# Altium footprint library Wireless_Security_Detector.PcbLib: 36 footprints (part 2 of 3)
Each footprint in its own frame and in the unit in brackets; x right, y up, seen from the top. Pads: shape width x height; smd on the part's side, far side on the other; paste and mask are expansions set on the pad; w line width, h text height; cw(c..) or ccw(c..) is an arc to the next point about the centre after c.
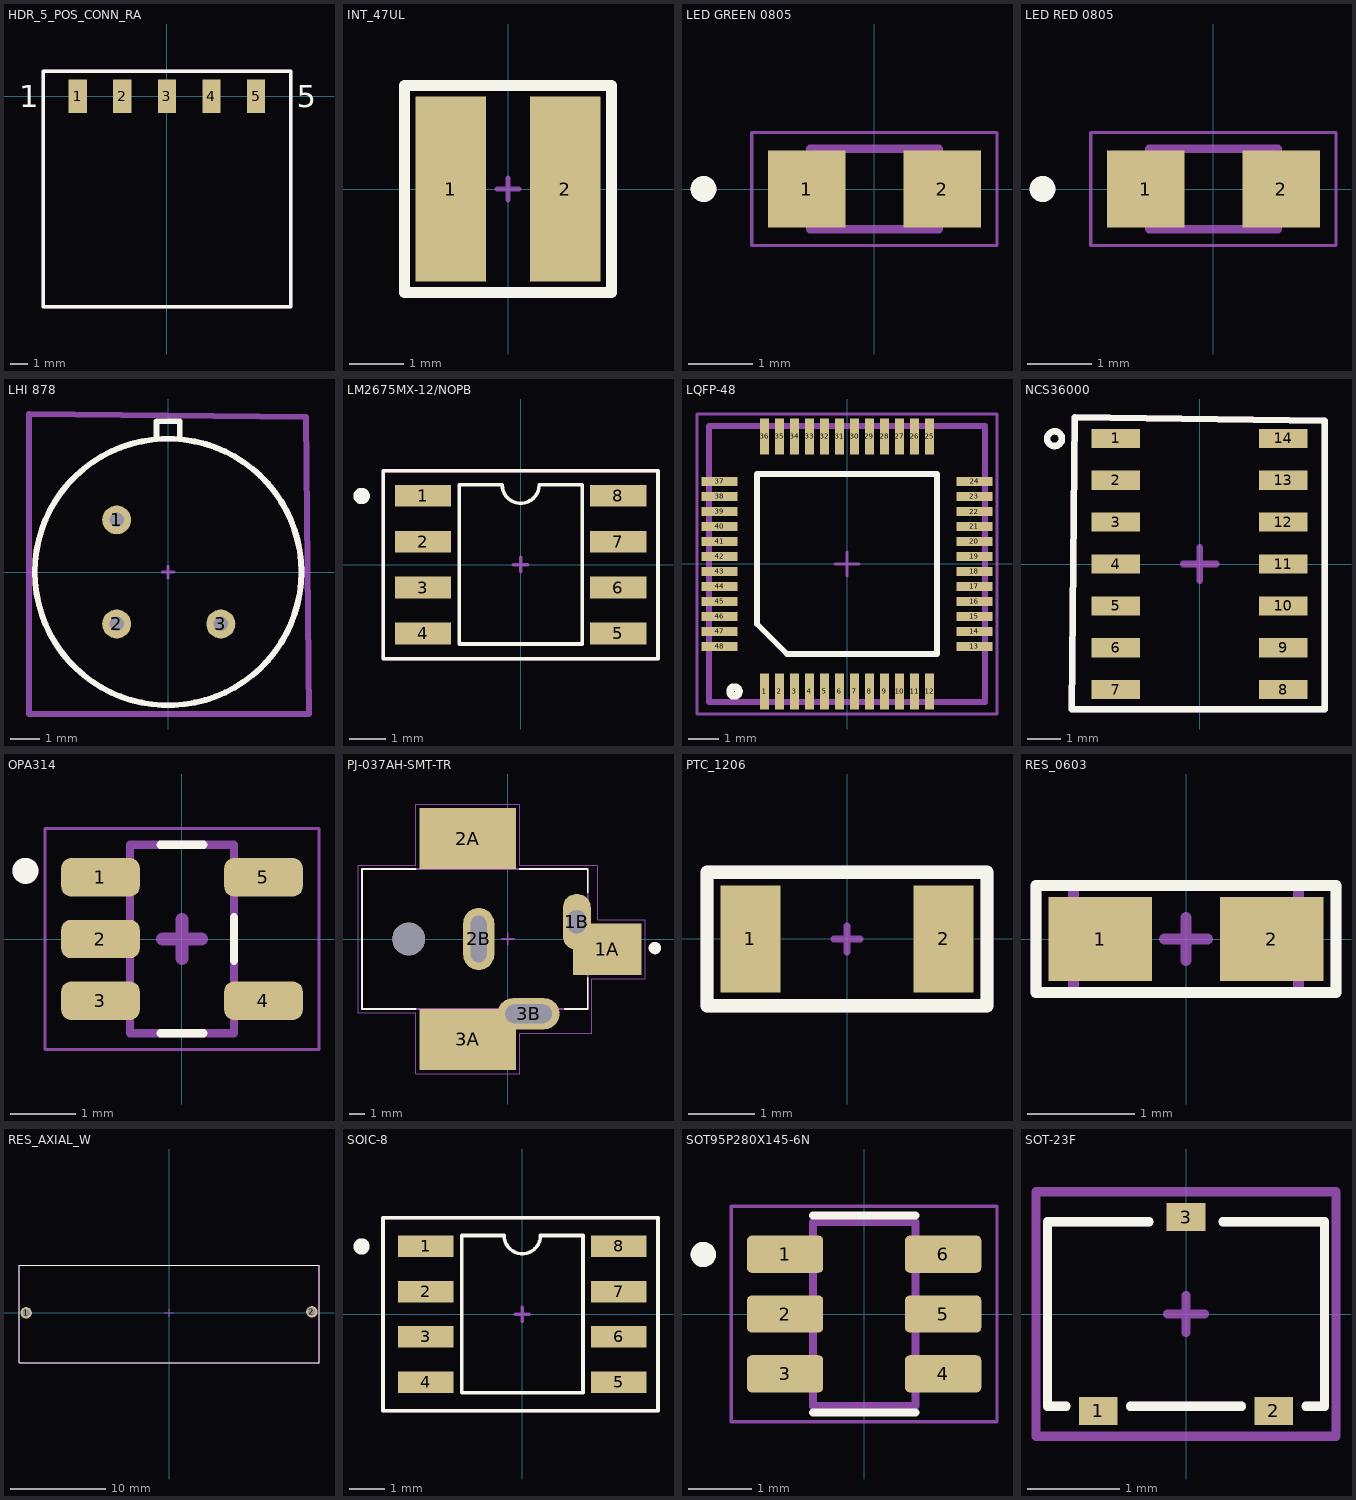
[diagram p1: the footprints below, top view; thin cyan lines are the x and y axes]

## HDR_5_POS_CONN_RA [mm]
pads (5):
  rect 1.04x1.91 smd mask+0: 1(-5.08,0) 2(-2.54,0) 3(0,0) 4(2.54,0) 5(5.08,0)
Top Overlay:
  lines w0.2: -7.054,-11.982 7.054,-11.982 7.054,1.406 -7.054,1.406 -7.054,-11.982
  text "1" at -8.424,-0.635 h1.27
  text "5" at 7.395,-0.635 h1.27
Top Paste:
  region: -4.56,-0.955 -5.6,-0.955 -5.6,0.955 -4.56,0.955
  region: -2.02,-0.955 -3.06,-0.955 -3.06,0.955 -2.02,0.955
  region: 0.52,-0.955 -0.52,-0.955 -0.52,0.955 0.52,0.955
  region: 3.06,-0.955 2.02,-0.955 2.02,0.955 3.06,0.955
  region: 5.6,-0.955 4.56,-0.955 4.56,0.955 5.6,0.955
Top Solder:
  region: -4.509,-1.006 -5.651,-1.006 -5.651,1.006 -4.509,1.006
  region: -1.969,-1.006 -3.111,-1.006 -3.111,1.006 -1.969,1.006
  region: 0.571,-1.006 -0.571,-1.006 -0.571,1.006 0.571,1.006
  region: 3.111,-1.006 1.969,-1.006 1.969,1.006 3.111,1.006
  region: 5.651,-1.006 4.509,-1.006 4.509,1.006 5.651,1.006
Top 3D Body:
  lines w0.2: -7.054,-11.982 -7.054,1.406 7.054,1.406 7.054,-11.982 -7.054,-11.982
Top Component Center:
  lines w0.1: -0.2,0 0.2,0 ; 0,-0.2 0,0.2
Top Designator:
  lines w0.2: -7.054,-11.982 -7.054,1.406 7.054,1.406 7.054,-11.982 -7.054,-11.982
  text ".Designator" at -1.9,-6.067 h1
Mechanical 13:
  text "1" at -8.424,-0.635 h1.27
  text "5" at 7.395,-0.635 h1.27
3D body "smh-105-02-l-s.stp": height 2.41, standoff -0.01, extent -6.6,-11.509 6.608,0.429

## INT_47UL [mm]
pads (2):
  rect 1.3x3.4 smd mask+0.05: 1(-1.05,0) 2(1.05,0)
Top Overlay:
  lines w0.2: -1.9,-1.9 1.9,-1.9 1.9,1.9 -1.9,1.9 -1.9,-1.9
Top 3D Body:
  lines w0.2: -1.9,-1.9 1.9,-1.9 1.9,1.9 -1.9,1.9 -1.9,-1.9
Top Component Center:
  lines w0.1: -0.2,0 0.2,0 ; 0,-0.2 0,0.2
  lines w0.2: -1.9,-1.9 1.9,-1.9 1.9,1.9 -1.9,1.9 -1.9,-1.9
Top Designator:
  lines w0.2: -1.9,-1.9 1.9,-1.9 1.9,1.9 -1.9,1.9 -1.9,-1.9
  text ".Designator" at -1.6,-0.833 h0.8
3D body: height 0.25, standoff 0, extent -1.5,-1.5 1.5,1.5

## LED GREEN 0805 [mm]
pads (2):
  rect 1.2x1.2 smd: 1(-1.05,0) 2(1.05,0)
Top Overlay:
  circle w0.2: c-2.65,0 r0.1
Mechanical 13:
  circle w0.2: c-2.65,0 r0.1
  lines w0.127: -1,-0.625 -1,0.625 1,0.625 1,-0.625 -1,-0.625
Mechanical 15:
  lines w0.05: -1.9,-0.875 1.9,-0.875 1.9,0.875 -1.9,0.875 -1.9,-0.875
3D body "LTST-C171GKT--3DModel-STEP-510211.STEP": height 0.8, standoff 0, extent -1,-0.625 1,0.625

## LED RED 0805 [mm]
pads (2):
  rect 1.2x1.2 smd: 1(-1.05,0) 2(1.05,0)
Top Overlay:
  circle w0.2: c-2.65,0 r0.1
Mechanical 13:
  circle w0.2: c-2.65,0 r0.1
  lines w0.127: -1,-0.625 1,-0.625 1,0.625 -1,0.625 -1,-0.625
Mechanical 15:
  lines w0.05: -1.9,-0.875 -1.9,0.875 1.9,0.875 1.9,-0.875 -1.9,-0.875
3D body "LTST-C171KRKT.STEP": height 1.1, standoff 0, extent -1,-0.625 1,0.625

## LHI 878 [mm]
pads (3):
  round 1 hole 0.5 mask+0.05: 1(-1.774,1.8) 2(-1.774,-1.792) 3(1.818,-1.792)
Top Overlay:
  circle w0.2: c0,0 r4.6
  lines w0.2: -0.4,4.6 -0.404,5.2 0.404,5.2 0.4,4.6
Top 3D Body:
  circle w0.2: c0,0 r4.6
Top Component Center:
  lines w0.1: -0.2,0 0.2,0 ; 0,-0.2 0,0.2
Top Designator:
  lines w0.2: -4.8,-4.9 -4.8,5.454 4.764,5.353 4.863,-4.9 -4.8,-4.9
  text ".Designator" at -1.9,-0.167 h1
3D body "User Library-LHI878.step": height 4.3, standoff -2.7, extent -4.6,-4.6 4.6,5.029

## LM2675MX-12/NOPB [mm]
pads (8):
  rect 1.55x0.6 smd mask+0.05: 1(-2.7,1.905) 2(-2.7,0.635) 3(-2.7,-0.635) 4(-2.7,-1.905) 5(2.7,-1.905) 6(2.7,-0.635) 7(2.7,0.635) 8(2.7,1.905)
Top Overlay:
  circle w0.254: c-4.4,1.9 r0.1
  lines w0.1: -3.8,-2.6 -3.8,2.6 3.8,2.6 3.8,-2.6 -3.8,-2.6 ; -1.7,-2.195 1.7,-2.195 1.7,2.205 0.51,2.205 cw(c0,2.205) -0.51,2.205 -1.7,2.205 -1.7,-2.195
Top 3D Body:
  lines w0.1: -3.8,-2.6 3.8,-2.6 3.8,2.6 -3.8,2.6 -3.8,-2.6
Top Component Center:
  lines w0.1: -0.2,0 0.2,0 ; 0,-0.2 0,0.2
Top Designator:
  lines w0.1: -3.8,-2.6 -3.8,2.6 3.8,2.6 3.8,-2.6 -3.8,-2.6
  text ".Designator" at -0.85,-0.283 h0.8
3D body "LM2675MX-12_NOPB.STEP": height 1.72, standoff -0.03, extent -3,-2.445 3,2.455

## LQFP-48 [mm]
pads (48):
  rect 0.3x1.2 smd mask+0.05: 1(-2.75,-4.25) 2(-2.25,-4.25) 3(-1.75,-4.25) 4(-1.25,-4.25) 5(-0.75,-4.25) 6(-0.25,-4.25) 7(0.25,-4.25) 8(0.75,-4.25) 9(1.25,-4.25) 10(1.75,-4.25) 11(2.25,-4.25) 12(2.75,-4.25) 25(2.75,4.25) 26(2.25,4.25) 27(1.75,4.25) 28(1.25,4.25) 29(0.75,4.25) 30(0.25,4.25) 31(-0.25,4.25) 32(-0.75,4.25) 33(-1.25,4.25) 34(-1.75,4.25) 35(-2.25,4.25) 36(-2.75,4.25)
  rect 1.2x0.3 smd mask+0.05: 13(4.25,-2.75) 14(4.25,-2.25) 15(4.25,-1.75) 16(4.25,-1.25) 17(4.25,-0.75) 18(4.25,-0.25) 19(4.25,0.25) 20(4.25,0.75) 21(4.25,1.25) 22(4.25,1.75) 23(4.25,2.25) 24(4.25,2.75) 37(-4.25,2.75) 38(-4.25,2.25) 39(-4.25,1.75) 40(-4.25,1.25) 41(-4.25,0.75) 42(-4.25,0.25) 43(-4.25,-0.25) 44(-4.25,-0.75) 45(-4.25,-1.25) 46(-4.25,-1.75) 47(-4.25,-2.25) 48(-4.25,-2.75)
Top Overlay:
  circle w0.25: c-3.75,-4.25 r0.15
  lines w0.2: -3,-2 -2,-3 3,-3 3,3 -3,3 -3,-2
Top 3D Body:
  lines w0.2: -4.6,-4.6 -4.6,4.6 4.6,4.6 4.6,-4.6 -4.6,-4.6
Top Component Center:
  lines w0.1: -0.4,0 0.4,0 ; 0,-0.4 0,0.4 ; -5,-5 5,-5 5,5 -5,5 -5,-5
Top Designator:
  lines w0.1: -5,-5 5,-5 5,5 -5,5 -5,-5
  text ".Designator" at -4.099,-1.667 h0.8
3D body "STM32F103C6T6ATR.STEP": height 1.6, standoff 0, extent -4.5,-4.5 4.5,4.5

## NCS36000 [mm]
pads (14):
  rect 1.48x0.58 smd mask+0.05: 1(-2.54,3.81) 2(-2.54,2.54) 3(-2.54,1.27) 4(-2.54,0) 5(-2.54,-1.27) 6(-2.54,-2.54) 7(-2.54,-3.81) 8(2.54,-3.81) 9(2.54,-2.54) 10(2.54,-1.27) 11(2.54,0) 12(2.54,1.27) 13(2.54,2.54) 14(2.54,3.81)
Top Overlay:
  circle w0.2: c-4.4,3.8 r0.224
  lines w0.2: -3.88,-4.4 3.8,-4.4 3.8,4.35 -3.783,4.447 -3.88,-4.4
Top 3D Body:
  lines w0.2: -3.88,-4.4 -3.783,4.447 3.8,4.35 3.8,-4.4 -3.88,-4.4
Top Component Center:
  lines w0.2: -0.5,0 0.5,0 ; 0,-0.5 0,0.5 ; -3.88,-4.4 3.8,-4.4 3.8,4.35 -3.783,4.447 -3.88,-4.4
Top Designator:
  lines w0.2: -3.88,-4.4 -3.783,4.447 3.8,4.35 3.8,-4.4 -3.88,-4.4
  text ".Designator" at -1.3,-1.533 h0.8
3D body "NCS36000DRG.step": height 1.83, standoff 0.03, extent -3,-4.28 3,4.28

## OPA314 [mm]
pads (5):
  rrect50% 1.21x0.59 smd: 1(-1.255,0.95) 2(-1.255,0) 3(-1.255,-0.95) 4(1.255,-0.95) 5(1.255,0.95)
Top Overlay:
  circle w0.2: c-2.41,1.05 r0.1
  lines w0.127: -0.33,-1.45 0.33,-1.45 ; -0.33,1.45 0.33,1.45 ; 0.8,-0.335 0.8,0.335
Top 3D Body:
  lines w0.127: -0.8,-1.45 0.8,-1.45 0.8,1.45 -0.8,1.45 -0.8,-1.45
Top Component Center:
  lines w0.05: -2.11,-1.7 2.11,-1.7 2.11,1.7 -2.11,1.7 -2.11,-1.7
  lines w0.2: -0.3,0 0.3,0 ; 0,-0.3 0,0.3
Top Designator:
  lines w0.05: -2.11,-1.7 2.11,-1.7 2.11,1.7 -2.11,1.7 -2.11,-1.7
  text ".Designator" at -0.5,-0.433 h0.8
Mechanical 13:
  circle w0.2: c-2.41,1.05 r0.1
3D body "step_temp.STEP": height 1.41, standoff -0.04, extent -1.4,-1.45 1.4,1.45

## PJ-037AH-SMT-TR [mm]
pads (7):
  rect 4.4x3.3 smd: 1A(6.375,-0.65)
  oval 1.8x3.6 hole 1.2 slot 1.5 at 90 deg: 1B(4.425,1.1)
  rect 6.2x3.9 smd: 2A(-2.575,6.45) 3A(-2.575,-6.45)
  oval 2x4 hole 1 slot 3 at 90 deg: 2B(-1.875,0)
  oval 4x2 hole 1.2 slot 3 at 0 deg: 3B(1.325,-4.8)
  round 2.1 hole 2.1 unplated: ""(-6.375,0)
Top Overlay:
  circle w0.4: c9.435,-0.58 r0.2
  lines w0.127: -5.925,-4.5 -9.375,-4.5 -9.375,4.5 -5.925,4.5 ; 0.775,4.5 5.125,4.5 5.125,3 ; 3.675,-4.5 5.125,-4.5 5.125,-2.5
Top Component Center:
  lines w0.05: -5.95,4.75 -9.625,4.75 -9.625,-4.75 -5.925,-4.75 -5.925,-8.65 0.775,-8.65 0.775,-6.05 5.375,-6.05 5.375,-2.55 8.825,-2.55 8.825,1.25 5.775,1.25 5.775,4.75 ; -5.925,4.75 -5.925,8.65 0.775,8.65 0.775,4.75 5.75,4.75
  lines w0.1: -0.4,0 0.4,0 ; 0,-0.4 0,0.4
Top Designator:
  lines w0.05: -9.625,-4.75 -9.625,4.75 -5.925,4.75 -5.925,8.65 0.775,8.65 0.775,4.75 5.775,4.75 5.775,1.25 8.825,1.25 8.825,-2.55 5.375,-2.55 5.375,-6.05 0.775,-6.05 0.775,-8.65 -5.925,-8.65 -5.925,-4.75 -9.625,-4.75
  text ".Designator" at 0.167,-0.8 h0.4
Mechanical 13:
  lines w0.127: -9.375,-4.5 -9.375,4.5 5.125,4.5 5.125,-4.5 -9.375,-4.5
3D body "User Library-CUI_DEVICES_PJ-037BH-SMT-TR.step": height 11.05, standoff -3.35, extent -9.4,-7.6 7.7,7.6

## PTC_1206 [mm]
pads (2):
  rect 0.9x1.6 smd mask+0.05: 1(-1.45,0) 2(1.45,0)
Top Overlay:
  lines w0.2: -2.1,-1 2.1,-1 2.1,1 -2.1,1 -2.1,-1
Top 3D Body:
  lines w0.2: -2.1,-1 -2.1,1 2.1,1 2.1,-1 -2.1,-1
Top Component Center:
  lines w0.1: -0.2,0 0.2,0 ; 0,-0.2 0,0.2
  lines w0.2: -2.1,-1 2.1,-1 2.1,1 -2.1,1 -2.1,-1
Top Designator:
  lines w0.2: -2.1,-1 2.1,-1 2.1,1 -2.1,1 -2.1,-1
  text ".Designator" at -0.8,-0.633 h0.8
3D body "User Library-RES1206-2.step": height 0.55, standoff 0, extent -1.505,-0.775 1.505,0.775

## RES_0603 [mil]
pads (2):
  rect 38x31 smd mask+1.97: 1(-31.5,0) 2(31.5,0)
Top Overlay:
  lines w3.94: -55.12,-19.68 55.12,-19.68 55.12,19.68 -55.12,19.68 -55.12,-19.68
Top 3D Body:
  lines w3.94: -41.34,-19.68 41.34,-19.68 41.34,19.68 -41.34,19.68 -41.34,-19.68
Top Component Center:
  lines w3.94: -7.87,0 7.87,0 ; 0,-7.87 0,7.87 ; -55.12,-19.68 55.12,-19.68 55.12,19.68 -55.12,19.68 -55.12,-19.68
Top Designator:
  lines w3.94: -55.12,-19.68 55.12,-19.68 55.12,19.68 -55.12,19.68 -55.12,-19.68
  text ".Designator" at 5.25,-78.71 h15.75
3D body "User Library-R_0603.step": height 19.68, standoff 0, extent -31.5,-17.72 31.5,17.72

## RES_AXIAL_W [mm]
pads (2):
  round 1.2 hole 0.8 mask+0.05: 1(-15,0) 2(15,0.1)
Top Overlay:
  lines w0.1: -15.75,-5.25 15.75,-5.25 15.75,5 -15.75,5 -15.75,-5.25
Top 3D Body:
  lines w0.1: -15.75,-5.25 15.75,-5.25 15.75,5 -15.75,5 -15.75,-5.25
Top Component Center:
  lines w0.1: -0.5,0 0.5,0 ; 0,-0.4 0,0.4 ; -15.75,-5.25 15.75,-5.25 15.75,5 -15.75,5 -15.75,-5.25
Top Designator:
  lines w0.1: -15.75,-5.25 15.75,-5.25 15.75,5 -15.75,5 -15.75,-5.25
  text ".Designator" at -0.8,-1.767 h1
3D body: height 5.1, standoff 4.3, extent 6.4,-0.4 15.4,0.4
3D body: height 5, standoff -4, extent 14.6,-0.4 15.4,0.4
3D body: height 5.1, standoff 4.3, extent -15.4,-0.4 -6.4,0.4
3D body: height 5, standoff -4, extent -15.4,-0.4 -14.6,0.4
3D body: height 9.65, standoff 0, extent -11,-4.925 11,4.725

## SOIC-8 [mm]
pads (8):
  rect 1.55x0.6 smd mask+0.05: 1(-2.7,1.905) 2(-2.7,0.635) 3(-2.7,-0.635) 4(-2.7,-1.905) 5(2.7,-1.905) 6(2.7,-0.635) 7(2.7,0.635) 8(2.7,1.905)
Top Overlay:
  circle w0.254: c-4.5,1.9 r0.1
  lines w0.1: -3.9,-2.7 3.8,-2.7 3.8,2.7 -3.9,2.7 -3.9,-2.7 ; -1.7,-2.195 1.7,-2.195 1.7,2.205 0.51,2.205 cw(c0,2.205) -0.51,2.205 -1.7,2.205 -1.7,-2.195
Top 3D Body:
  lines w0.1: -3.9,-2.7 3.8,-2.7 3.8,2.7 -3.9,2.7 -3.9,-2.7
Top Component Center:
  lines w0.1: -0.2,0 0.2,0 ; 0,-0.2 0,0.2 ; -3.9,-2.7 3.8,-2.7 3.8,2.7 -3.9,2.7 -3.9,-2.7
Top Designator:
  lines w0.1: -3.9,-2.7 3.8,-2.7 3.8,2.7 -3.9,2.7 -3.9,-2.7
  text ".Designator" at -0.85,-0.283 h0.8
3D body "LM2675MX-12_NOPB.STEP": height 1.75, standoff 0, extent -3,-2.445 3,2.455

## SOT95P280X145-6N [mm]
pads (6):
  rrect25% 1.21x0.59 smd: 1(-1.255,0.95) 2(-1.255,0) 3(-1.255,-0.95) 4(1.255,-0.95) 5(1.255,0) 6(1.255,0.95)
Top Overlay:
  circle w0.2: c-2.555,0.945 r0.1
  lines w0.127: -0.813,-1.565 0.813,-1.565 ; -0.813,1.565 0.813,1.565
Top Designator:
  lines w0.05: -2.11,-1.713 2.11,-1.713 2.11,1.713 -2.11,1.713 -2.11,-1.713
  text ".Designator" at -0.4,-0.333 h0.5
Mechanical 13:
  circle w0.2: c-2.555,0.945 r0.1
  lines w0.127: -0.813,-1.462 0.813,-1.462 0.813,1.462 -0.813,1.462 -0.813,-1.462
3D body "step_temp.STEP": height 1.4, standoff -0.05, extent -1.4,-1.462 1.4,1.462

## SOT-23F [mm]
pads (3):
  rect 0.42x0.3 smd mask+0.05: 1(-0.95,-1.05) 2(0.95,-1.05) 3(0,1.05)
Top Overlay:
  lines w0.1: -1.3,-1 -1.5,-1 -1.5,1 -0.4,1 ; -0.6,-1 0.6,-1 ; 0.4,1 1.5,1 1.5,-1 1.3,-1
Top 3D Body:
  lines w0.1: -1.625,-1.325 1.625,-1.325 1.625,1.325 -1.625,1.325 -1.625,-1.325
Top Component Center:
  lines w0.1: -0.2,0 0.2,0 ; 0,-0.2 0,0.2
Top Designator:
  lines w0.1: -1.3,-1 -1.5,-1 -1.5,1 -0.4,1 ; -0.6,-1 0.6,-1 ; 0.4,1 1.5,1 1.5,-1 1.3,-1
  text ".Designator" at -0.6,-0.233 h0.5
3D body "SSM3K357R,LF.STEP": height 0.88, standoff 0, extent -1.45,-1.2 1.45,1.2